# EAGLE library part IF-30-34 (library trafo-signal)
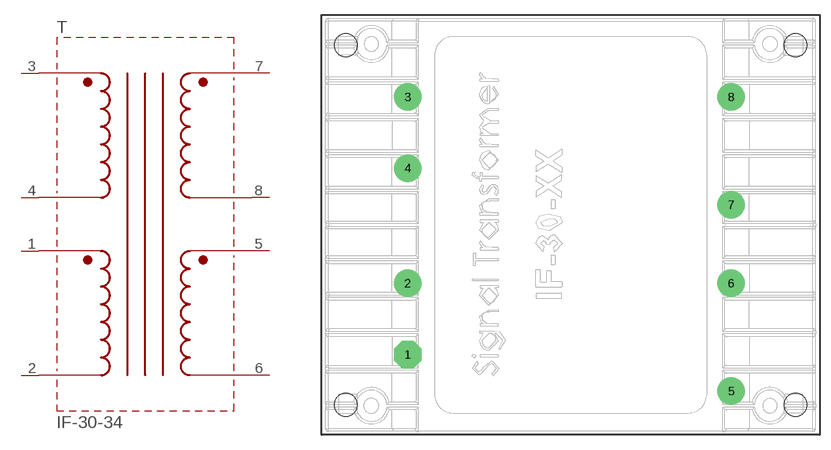
[diagram p12: symbol with the pads of IF-30-34; footprint IF-30-34]

Designator prefix T

## IF-30-34  [IF-30-34]
1  1  pas
2  2  pas
3  3  pas
4  4  pas
5  5  pas
6  6  pas
7  7  pas
8  8  pas

## Footprint IF-30-34 (pad centres in mm)
Power Transformer IF Series
drill 1.422 pad 3.81 octagon: 1 -22.657,-18.034
drill 1.422 pad 3.81: 2 -22.657,-8.128; 3 -22.657,17.78; 4 -22.657,7.874; 5 22.301,-23.114; 6 22.301,-8.128; 7 22.301,2.794; 8 22.301,17.78
hole 3.175 at -31.25,-25
hole 3.175 at -31.25,25
hole 3.175 at 31.25,25
hole 3.175 at 31.25,-25